# Altium schematic symbol library SCH - POWER - SWITCHMODE - TI TPS51363RVE.SchLib: 1 symbol
Pins are listed as number, name and electrical type; pins without a type are passive.

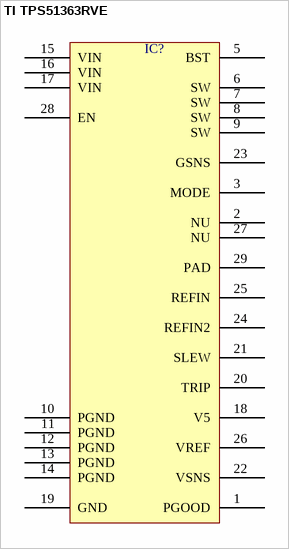
[diagram p0: symbol TI TPS51363RVE]

## TI TPS51363RVE
designator IC?  (value not drawn)
pins: 1 PGOOD, 2 NU, 3 MODE, 5 BST, 6 SW, 7 SW, 8 SW, 9 SW, 10 PGND, 11 PGND, 12 PGND, 13 PGND, 14 PGND, 15 VIN, 16 VIN, 17 VIN, 18 V5, 19 GND, 20 TRIP, 21 SLEW, 22 VSNS, 23 GSNS, 24 REFIN2, 25 REFIN, 26 VREF, 27 NU, 28 EN, 29 PAD